# EAGLE library part BERRYGPS-IMUV3 (library BERRYIMU)
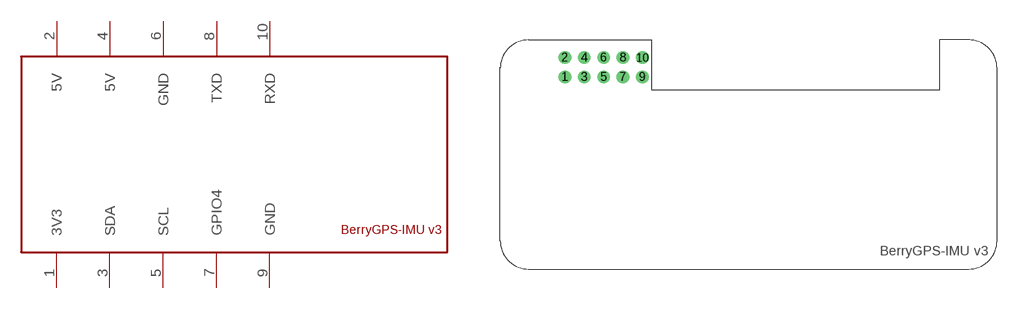
[diagram p0: symbol with the pads of BERRYGPS-IMUV3; footprint BERRYGPS-IMUV3]

Designator prefix -

## BERRYGPS-IMUV3THROUGH_HOLE_ALPHA  [BERRYGPS-IMUV3]
1  3V3
2  5V
3  SDA
4  5V
5  SCL
6  GND
7  GPIO4
8  TXD
9  GND
10  RXD

## Footprint BERRYGPS-IMUV3 (pad centres in mm)
drill 0.9 pad 1.676: 1 -24.13,10.16; 2 -24.13,12.7; 3 -21.59,10.16; 4 -21.59,12.7; 5 -19.05,10.16; 6 -19.05,12.7; 7 -16.51,10.16; 8 -16.51,12.7; 9 -13.97,10.16; 10 -13.97,12.7